# EAGLE library part GM-ICS_TL074 (library braids_v50)
OP AMP
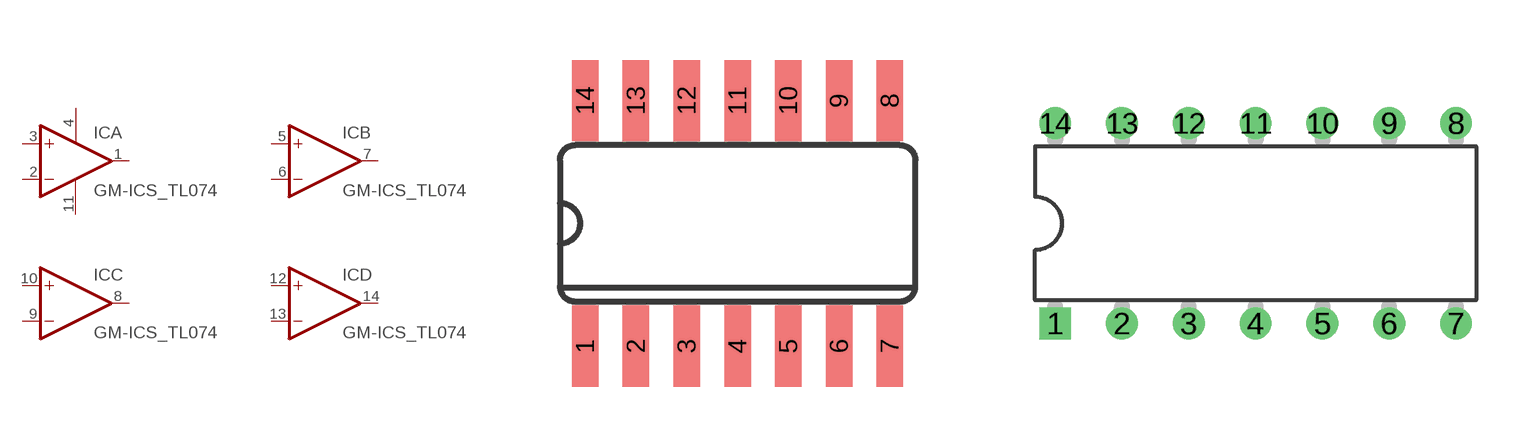
[diagram p2: symbol with the pads of GM-ICS_SO14; footprints GM-ICS_SO14, GM-ICS_DIL14]

Designator prefix IC; gates A=GM-ICS_OPAMP B=GM-ICS_OPAMP C=GM-ICS_OPAMP D=GM-ICS_OPAMP P=GM-ICS_PWR+-

## GM-ICS_TL074D  [GM-ICS_SO14]
1  A:OUT  out
2  A:-IN  in
3  A:+IN  in
4  P:V+  pwr
5  B:+IN  in
6  B:-IN  in
7  B:OUT  out
8  C:OUT  out
9  C:-IN  in
10  C:+IN  in
11  P:V-  pwr
12  D:+IN  in
13  D:-IN  in
14  D:OUT  out

## GM-ICS_TL074P  [GM-ICS_DIL14]
Pads as for GM-ICS_SO14

## Footprint GM-ICS_SO14 (pad centres in mm)
Small Outline package 150 mil
smd 0.66 x 2.032: 1 -3.81,-3.073; 2 -2.54,-3.073; 3 -1.27,-3.073; 4 0,-3.073; 5 1.27,-3.073; 6 2.54,-3.073; 7 3.81,-3.073; 8 3.81,3.073; 9 2.54,3.073; 10 1.27,3.073; 11 0,3.073; 12 -1.27,3.073; 13 -2.54,3.073; 14 -3.81,3.073

## Footprint GM-ICS_DIL14 (pad centres in mm)
Dual In Line Package
drill 0.7 square: 1 -7.62,-3.81
drill 0.7: 2 -5.08,-3.81; 3 -2.54,-3.81; 4 0,-3.81; 5 2.54,-3.81; 6 5.08,-3.81; 7 7.62,-3.81; 8 7.62,3.81; 9 5.08,3.81; 10 2.54,3.81; 11 0,3.81; 12 -2.54,3.81; 13 -5.08,3.81; 14 -7.62,3.81